# EAGLE library part AUREL_TX-SAW_433 (library aurel)
Trasmettitore RF 433,92 MHz
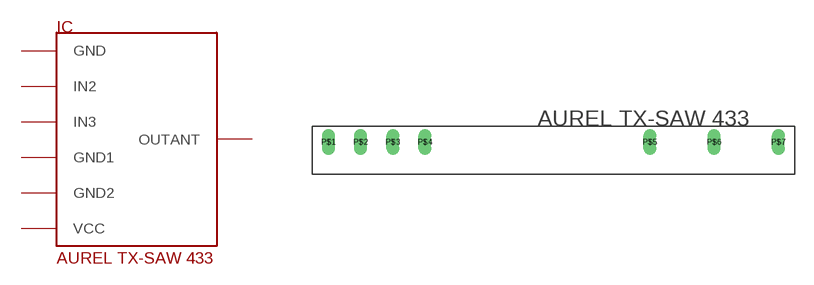
[diagram p0: symbol with the pads of AUREL_TX-SAW_433; footprint AUREL_TX-SAW_433]

Designator prefix IC

## AUREL_TX-SAW_433  [AUREL_TX-SAW_433]
P$1  GND
P$2  IN2
P$3  IN3
P$4  GND1
P$5  OUTANT
P$6  GND2
P$7  VCC

## Footprint AUREL_TX-SAW_433 (pad centres in mm)
Trasmettitore RF 433,92 MHz
drill 0.406 pad 1.016 long: P$1 -19.05,1.27; P$2 -16.51,1.27; P$3 -13.97,1.27; P$4 -11.43,1.27; P$5 6.35,1.27; P$6 11.43,1.27; P$7 16.51,1.27